# EAGLE library part CONN_7-1 (library molex)
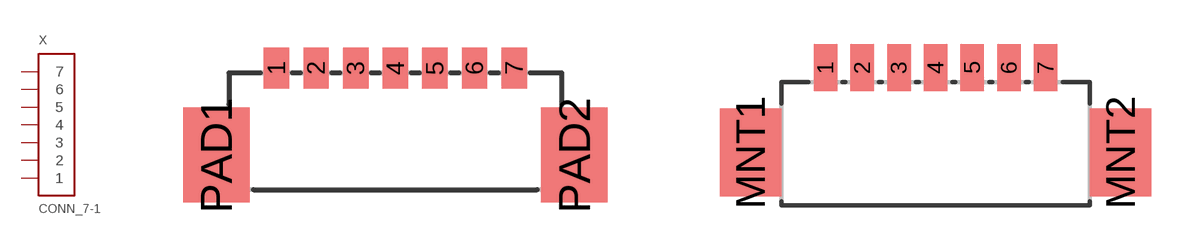
[diagram p9: symbol with the pads of PB-53398-07; footprints PB-53398-07, PB-53261-07]

Designator prefix X

## CONN_7-1-53398  [PB-53398-07]
1  1
2  2
3  3
4  4
5  5
6  6
7  7

## CONN_7-1-53261  [PB-53261-07]
Pads as for PB-53398-07

## CONN_7-1-53047  [PB-53047-07]
Pads as for PB-53398-07

## Footprint PB-53398-07 (pad centres in mm)
smd 0.8 x 1.3: 1 -3.75,1.25; 2 -2.5,1.25; 3 -1.25,1.25; 4 0,1.25; 5 1.25,1.25; 6 2.5,1.25; 7 3.75,1.25
smd 2.1 x 3: PAD1 -5.65,-1.5; PAD2 5.65,-1.5

## Footprint PB-53261-07 (pad centres in mm)
smd 0.8 x 1.6: 1 -3.75,1.1; 2 -2.5,1.1; 3 -1.25,1.1; 4 0,1.1; 5 1.25,1.1; 6 2.5,1.1; 7 3.75,1.1
smd 2.1 x 3: MNT1 -6.3,-1.8; MNT2 6.3,-1.8

## Footprint PB-53047-07 (pad centres in mm)
drill 0.5 round: 1 -3.75,0; 2 -2.5,0; 3 -1.25,0; 4 0,0; 5 1.25,0; 6 2.5,0; 7 3.75,0